# Altium schematic symbol library OpAmp.SchLib: 6 symbols
Pins are listed as number, name and electrical type; pins without a type are passive.

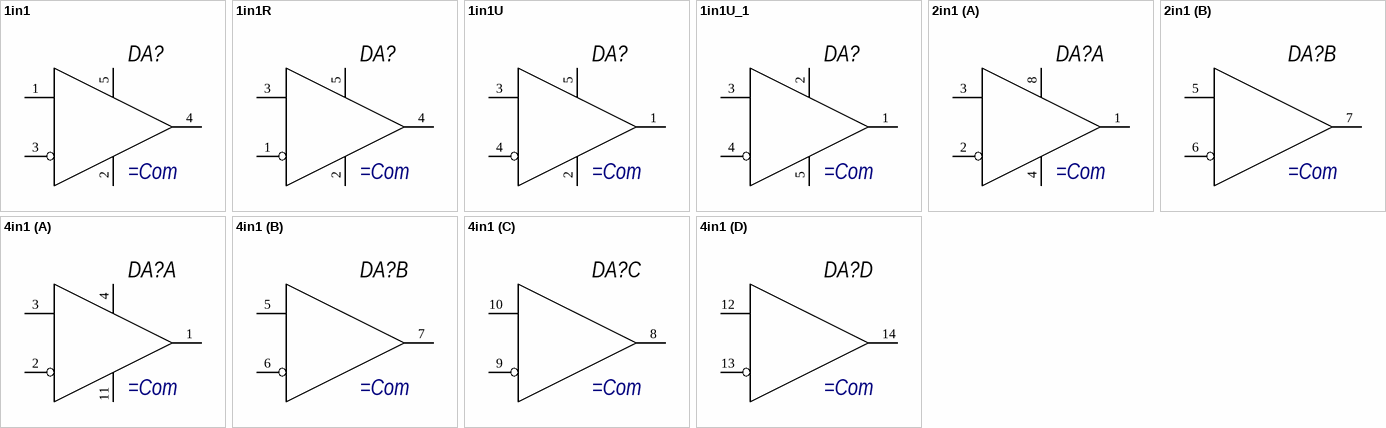
[diagram p0: symbols 1in1 to 4in1]

## 1in1
designator DA?
pins: 1 +, 2 GND, 3 -, 4 OUT, 5 VCC

## 1in1R
designator DA?
pins: 1 -, 2 GND, 3 +, 4 OUT, 5 VCC

## 1in1U
designator DA?
pins: 1 OUT, 2 GND, 3 +, 4 -, 5 VCC

## 1in1U_1
designator DA?
pins: 1 OUT, 2 GND, 3 +, 4 -, 5 VCC

## 2in1
designator DA?
part A pins: 1 OUT, 2 -, 3 +, 4 GND, 8 VCC
part B pins: 5 +, 6 -, 7 OUT

## 4in1
designator DA?
part A pins: 1 OUT, 2 -, 3 +, 4 VCC, 11 GND
part B pins: 5 +, 6 -, 7 OUT
part C pins: 8 OUT, 9 -, 10 +
part D pins: 12 +, 13 -, 14 OUT